# EAGLE library part 691307400008 (library Wurth_Elektronik_Electromechanic_Terminal_Blocks_Connectors_rev15c)
WR - TBL Serie 3074 - 7.62mm Reversed Gender Vertical PCB Header , 8 pins=>Code : WR-TBL_3074_691307400008 <http://katalog.we-online.de/media/images/eican/WR-TBL_3074_691307400003_pf2.jpg> Details see: http://katalog.we-online.de/en/em/691_307_400_0xx Created 2014-06-25, Karrer Zheng 2014 (C) Würth Elektronik
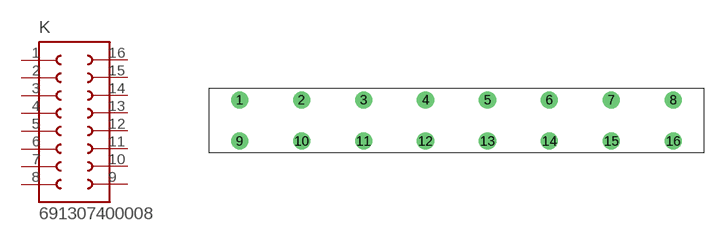
[diagram p195: symbol with the pads of 691307400008; footprint 691307400008]

Designator prefix K

## 691307400008  [691307400008]
1  1  pas
2  2  pas
3  3  pas
4  4  pas
5  5  pas
6  6  pas
7  7  pas
8  8  pas
9  9  pas
10  10  pas
11  11  pas
12  12  pas
13  13  pas
14  14  pas
15  15  pas
16  16  pas

## Footprint 691307400008 (pad centres in mm)
WR - TBL Serie 3074 - 7.62mm Reversed Gender Vertical PCB Header , 8 pins
drill 1.4: 1 -22.86,0; 2 -15.24,0; 3 -7.62,0; 4 0,0; 5 7.62,0; 6 15.24,0; 7 22.86,0; 8 30.48,0; 9 -22.86,-5.08; 10 -15.24,-5.08; 11 -7.62,-5.08; 12 0,-5.08; 13 7.62,-5.08; 14 15.24,-5.08; 15 22.86,-5.08; 16 30.48,-5.08